# EAGLE library part BSD235C (library alvie)
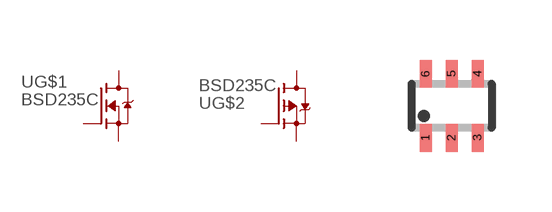
[diagram p43: symbol with the pads of SOT363_INFINEON; footprint SOT363_INFINEON]

Designator prefix -; gates G$1=MOSFET-N G$2=MOSFET-P

## BSD235C  [SOT363_INFINEON]
1  G$1:S  pas
2  G$1:G  pas
3  G$2:D  pas
4  G$2:S  pas
5  G$2:G  pas
6  G$1:D  pas

## Footprint SOT363_INFINEON (pad centres in mm)
smd 0.3 x 0.7: 1 -0.65,-0.8; 2 0,-0.8; 3 0.65,-0.8; 4 0.65,0.8; 5 0,0.8; 6 -0.65,0.8